# EAGLE library part ARDUINO-MICRO (library RelayBoard)
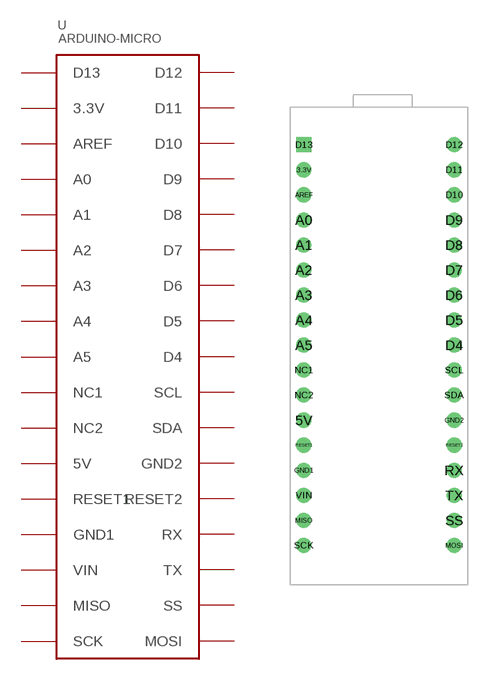
[diagram p3: symbol with the pads of ARDUINO-MICRO-A000053; footprint ARDUINO-MICRO-A000053]

Designator prefix -

## ARDUINO-MICRO  [ARDUINO-MICRO-A000053]
3.3V  3.3V  pwr
5V  5V  pwr
A0  A0  in
A1  A1  in
A2  A2  in
A3  A3
A4  A4
A5  A5
AREF  AREF
D4  D4
D5  D5
D6  D6
D7  D7  in
D8  D8  in
D9  D9  in
D10  D10  in
D11  D11  in
D12  D12  in
D13  D13
GND1  GND1  pwr
GND2  GND2  pwr
MISO  MISO
MOSI  MOSI
NC1  NC1  oc
NC2  NC2  oc
RESET1  RESET1
RESET2  RESET2
RX  RX
SCK  SCK
SCL  SCL
SDA  SDA
SS  SS
TX  TX
VIN  VIN  pwr

## Footprint ARDUINO-MICRO-A000053 (pad centres in mm)
http://www.sullinscorp.com/drawings/78_P(N)PxCxxxLFBN-RC,_10492-G.pdf https://www.arduino.cc/en/Main/arduinoBoardMicro
drill 1.02: 3.3V 0,-2.54; 5V 0,-27.94; A0 0,-7.62; A1 0,-10.16; A2 0,-12.7; A3 0,-15.24; A4 0,-17.78; A5 0,-20.32; AREF 0,-5.08; D4 15.24,-20.32; D5 15.24,-17.78; D6 15.24,-15.24; D7 15.24,-12.7; D8 15.24,-10.16; D9 15.24,-7.62; D10 15.24,-5.08; D11 15.24,-2.54; D12 15.24,0; GND1 0,-33.02; GND2 15.24,-27.94; MISO 0,-38.1; MOSI 15.24,-40.64; NC1 0,-22.86; NC2 0,-25.4; RESET1 0,-30.48; RESET2 15.24,-30.48; RX 15.24,-33.02; SCK 0,-40.64; SCL 15.24,-22.86; SDA 15.24,-25.4; SS 15.24,-38.1; TX 15.24,-35.56; VIN 0,-35.56
drill 1.02 square: D13 0,0